# Altium footprint library Conectores.PcbLib: 6 footprints
Each footprint in its own frame and in the unit in brackets; x right, y up, seen from the top. Pads: shape width x height; smd on the part's side, far side on the other; paste and mask are expansions set on the pad; w line width, h text height; cw(c..) or ccw(c..) is an arc to the next point about the centre after c.
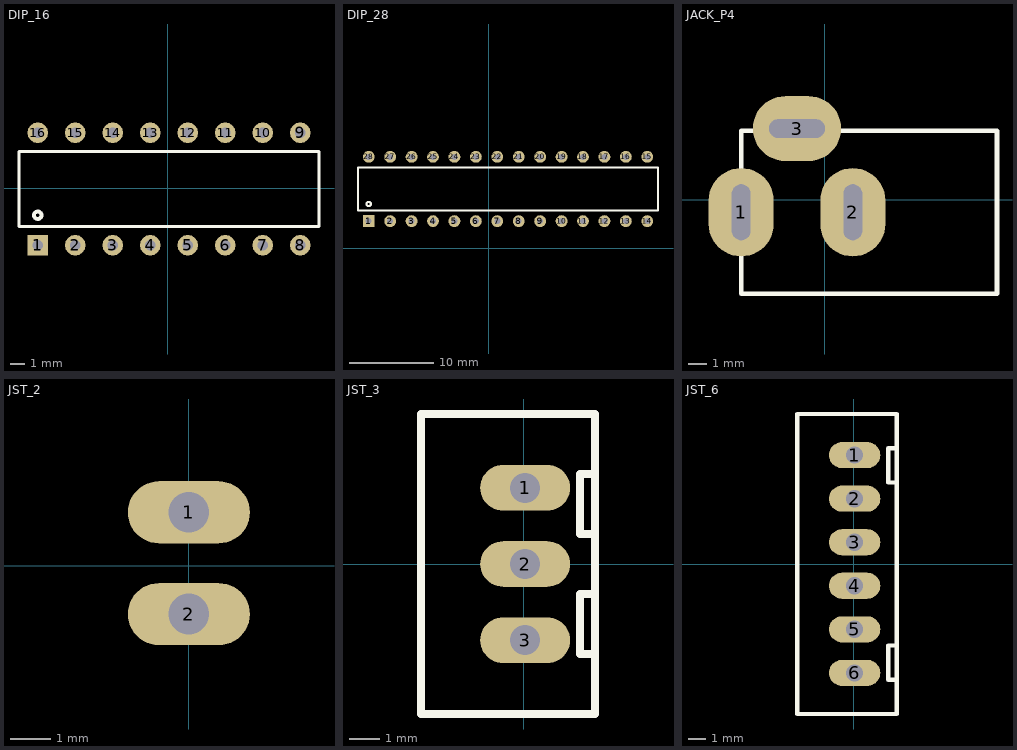
[diagram p0: the footprints below, top view; thin cyan lines are the x and y axes]

## DIP_16 [mil]
pads (16):
  rect 55x55 hole 28: 1(-346.84,-152.35)
  round 55 hole 28: 2(-246.84,-152.35) 3(-146.84,-152.35) 4(-46.84,-152.35) 5(53.16,-152.35) 6(153.16,-152.35) 7(253.16,-152.35) 8(353.16,-152.35) 9(353.16,147.65) 10(253.16,147.65) 11(153.16,147.65) 12(53.16,147.65) 13(-46.84,147.65) 14(-146.84,147.65) 15(-246.84,147.65) 16(-346.84,147.65)
Top Overlay:
  circle w10: c-346.84,-72.35 r10
  lines w9: -396.84,-102.35 403.16,-102.35 403.16,97.65 -396.84,97.65 -396.84,-102.35
3D body "dip16.stp": height 204.37, standoff -120.43, extent -396.34,-199.85 403.66,200.15

## DIP_28 [mil]
pads (28):
  rect 55x55 hole 28: 1(-560.5,127.5)
  round 55 hole 28: 2(-460.5,127.5) 3(-360.5,127.5) 4(-260.5,127.5) 5(-160.5,127.5) 6(-60.5,127.5) 7(39.5,127.5) 8(139.5,127.5) 9(239.5,127.5) 10(339.5,127.5) 11(439.5,127.5) 12(539.5,127.5) 13(639.5,127.5) 14(739.5,127.5) 15(739.5,427.5) 16(639.5,427.5) 17(539.5,427.5) 18(439.5,427.5) 19(339.5,427.5) 20(239.5,427.5) 21(139.5,427.5) 22(39.5,427.5) 23(-60.5,427.5) 24(-160.5,427.5) 25(-260.5,427.5) 26(-360.5,427.5) 27(-460.5,427.5) 28(-560.5,427.5)
Top Overlay:
  circle w10: c-560.5,207.5 r10
  lines w9: -610.5,177.5 -610.5,377.5 789.5,377.5 789.5,177.5 -610.5,177.5
3D body "DIP28.stp": height 204.72, standoff -120.08, extent -610,75 790,475

## JACK_P4 [mil]
pads (3):
  oval 140x190 hole 40 slot 120 at 90 deg: 1(-179.28,-27.02) 2(60.72,-27.02)
  oval 190x140 hole 40 slot 120 at 0 deg: 3(-59.28,152.98)
Top Overlay:
  lines w10: -179.28,-106.02 -179.28,-202.02 370.72,-202.02 370.72,147.98 20.72,147.98 ; -179.28,46.98 -179.28,147.98 -150.28,147.98
3D body "JACK_P4.STEP": height 477.17, standoff -116.97, extent -182.71,-212.17 365.94,159.88

## JST_2 [mm]
pads (2):
  oval 3x1.524 hole 1: 1(0.005,1.311) 2(0.005,-1.189)
Bottom Overlay:
  lines w0.254: -3.32,-3.642 2.355,-3.642 2.355,3.724 -3.32,3.724 -3.32,-3.642 ; 1.955,-1.509 2.355,-1.509 2.355,1.631 1.955,1.631 1.955,-1.509
3D body "User Library-JST B2B-XH-A.step": height 6.6, standoff -3.8, extent -3.32,-3.642 2.43,3.758

## JST_3 [mm]
pads (3):
  oval 3x1.524 hole 1: 1(0.044,2.542) 2(0.044,0.002) 3(0.044,-2.538)
Top Overlay:
  lines w0.254: -3.429,-4.998 2.371,-4.998 2.371,5.002 -3.429,5.002 -3.429,-4.998 ; 1.871,-2.998 2.371,-2.998 2.371,-0.998 1.871,-0.998 1.871,-2.998 ; 1.871,1.002 2.371,1.002 2.371,3.002 1.871,3.002 1.871,1.002
3D body "JST_3PINS.step": height 7.02, standoff -3.38, extent -3.337,-4.95 2.413,4.95

## JST_6 [mm]
pads (6):
  oval 3x1.524 hole 1: 1(0.044,6.35) 2(0.044,3.81) 3(0.044,1.27) 4(0.044,-1.27) 5(0.044,-3.81) 6(0.044,-6.35)
Top Overlay:
  lines w0.254: -3.302,-8.75 -3.302,8.75 2.498,8.75 2.498,-8.75 -3.302,-8.75 ; 1.998,-6.75 1.998,-4.75 2.498,-4.75 2.498,-6.75 1.998,-6.75 ; 1.998,4.75 1.998,6.75 2.498,6.75 2.498,4.75 1.998,4.75
3D body "JST_6PINS.step": height 7.23, standoff -2.98, extent -3.226,-8.674 2.616,8.7